# EAGLE library part MCP2210 (library Oles komponentbibliotek)
USB-to-SPI Protocol Converter with GPIO (Master Mode)
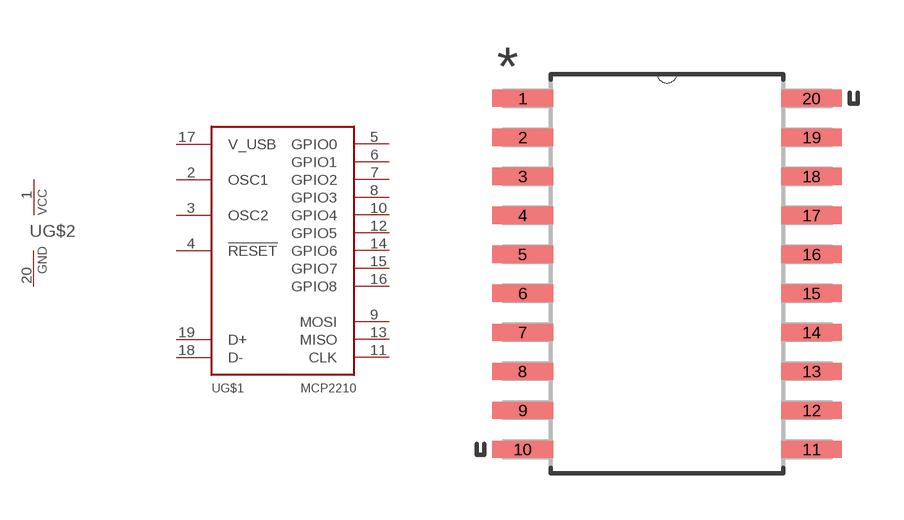
[diagram p15: symbol with the pads of SOIC127P1034X264-20N; footprint SOIC127P1034X264-20N]

Designator prefix -; gates G$1=MCP2210 G$2=PWRN

## MCP2210  [SOIC127P1034X264-20N]
1  G$2:VCC  pwr
2  G$1:OSC1  out
3  G$1:OSC2  in
4  G$1:!RESET  in
5  G$1:GPIO0
6  G$1:GPIO1
7  G$1:GPIO2
8  G$1:GPIO3
9  G$1:MOSI  out
10  G$1:GPIO4
11  G$1:CLK  out
12  G$1:GPIO5
13  G$1:MISO  in
14  G$1:GPIO6
15  G$1:GPIO7
16  G$1:GPIO8
17  G$1:V_USB
18  G$1:D-
19  G$1:D+
20  G$2:GND  pwr

## Footprint SOIC127P1034X264-20N (pad centres in mm)
smd 1.981 x 0.559: 1 -4.699,5.715; 2 -4.699,4.445; 3 -4.699,3.175; 4 -4.699,1.905; 5 -4.699,0.635; 6 -4.699,-0.635; 7 -4.699,-1.905; 8 -4.699,-3.175; 9 -4.699,-4.445; 10 -4.699,-5.715; 11 4.699,-5.715; 12 4.699,-4.445; 13 4.699,-3.175; 14 4.699,-1.905; 15 4.699,-0.635; 16 4.699,0.635; 17 4.699,1.905; 18 4.699,3.175; 19 4.699,4.445; 20 4.699,5.715